# Altium footprint library DE0_NANO.PcbLib: 1 footprints
Each footprint in its own frame and in the unit in brackets; x right, y up, seen from the top. Pads: shape width x height; smd on the part's side, far side on the other; paste and mask are expansions set on the pad; w line width, h text height; cw(c..) or ccw(c..) is an arc to the next point about the centre after c.
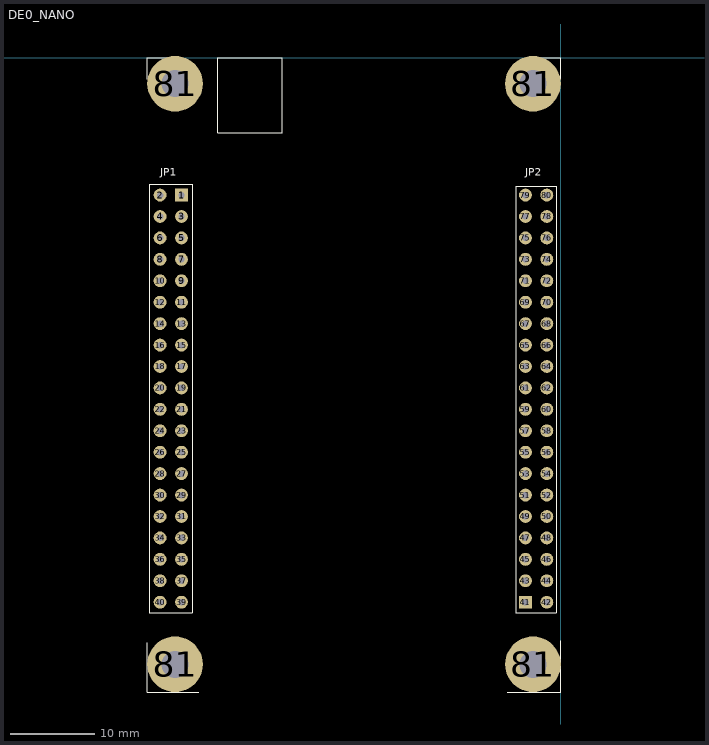
[diagram p0: the footprint, top view; thin cyan lines are the x and y axes]

## DE0_NANO [mil] "Footprint for DE0 Nano GPIO Expansion Headers"
pads (84):
  rect 60x60 hole 30: 1(-1770,-640) 41(-165,-2540)
  round 60 hole 30: 2(-1869.92,-640) 3(-1769.92,-740) 4(-1869.92,-740) 5(-1769.92,-840) 6(-1869.92,-840) 7(-1769.92,-940) 8(-1869.92,-940) 9(-1769.92,-1040) 10(-1869.92,-1040) 11(-1769.92,-1140) 12(-1869.92,-1140) 13(-1769.92,-1240) 14(-1869.92,-1240) 15(-1769.92,-1340) 16(-1869.92,-1340) 17(-1769.92,-1440) 18(-1869.92,-1440) 19(-1769.92,-1540) 20(-1869.92,-1540) 21(-1769.92,-1640) 22(-1869.92,-1640) 23(-1769.92,-1740) 24(-1869.92,-1740) 25(-1769.92,-1840) 26(-1869.92,-1840) 27(-1769.92,-1940) 28(-1869.92,-1940) 29(-1769.92,-2040) 30(-1869.92,-2040) 31(-1769.92,-2140) 32(-1869.92,-2140) 33(-1769.92,-2240) 34(-1869.92,-2240) 35(-1769.92,-2340) 36(-1869.92,-2340) 37(-1769.92,-2440) 38(-1869.92,-2440) 39(-1769.92,-2540) 40(-1869.92,-2540) 42(-64.96,-2540.16) 43(-165,-2440) 44(-65,-2440) 45(-165,-2340) 46(-65,-2340) 47(-165,-2240) 48(-65,-2240) 49(-165,-2140) 50(-65,-2140) 51(-165,-2040) 52(-65,-2040) 53(-165,-1940) 54(-65,-1940) 55(-165,-1840) 56(-65,-1840) 57(-165,-1740) 58(-65,-1740) 59(-165,-1640) 60(-65,-1640) 61(-165,-1540) 62(-65,-1540) 63(-165,-1440) 64(-65,-1440) 65(-165,-1340) 66(-65,-1340) 67(-165,-1240) 68(-65,-1240) 69(-165,-1140) 70(-65,-1140) 71(-165,-1040) 72(-65,-1040) 73(-165,-940) 74(-65,-940) 75(-165,-840) 76(-65,-840) 77(-165,-740) 78(-65,-740) 79(-165,-640) 80(-65,-640)
  round 259.84 hole 125.98: 81(-1800,-2829.92) 81(-1800,-120.08) 81(-129.92,-2829.92) 81(-129.92,-120.08)
Top Overlay:
  lines w5: -1930,-2730 -1930,-2959.84 -1690,-2960 ; -1930,-100 -1930,0 -1920,0 -1830,0 ; -250,-2960 0,-2960 0,-2720 ; -100,0 0,0 0,-100 ; -1919.92,-2590 -1919.92,-590 -1719.92,-590 -1719.92,-2590 -1919.92,-2590 ; -1600,-350 -1300,-350 -1300,0 -1600,0 -1600,-350 ; -210.04,-2590 -210.04,-600 -20.04,-600 -20.04,-2590 -210.04,-2590
  text "JP1" at -1870,-550 h35
  text "JP2" at -165,-550 h35